# Altium integrated library CD4016BE.IntLib: 1 symbol
Pins are listed as number, name and electrical type; pins without a type are passive.

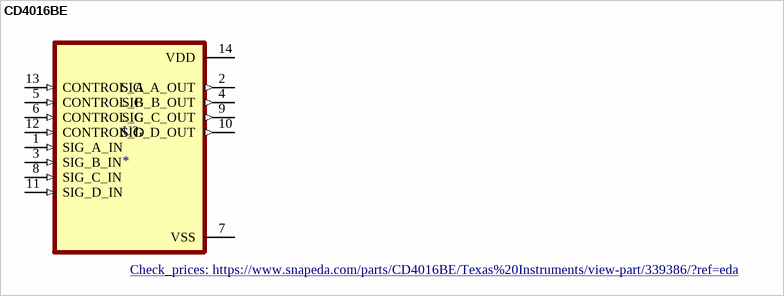
[diagram p0: symbol CD4016BE]

## CD4016BE
designator U?
100-pA, 20-V, 1:1 (SPST), 4-channel analog switch 14-PDIP -55 to 125; MP: CD4016BE; MF: Texas Instruments; Price: None; Availability: Good; Mouser-Purchase-URL: https://snapeda.com/shop?store=Mouser&id=339386; DigiKey-Purchase-URL: https://snapeda.com/shop?store=DigiKey&id=339386; Package: PDIP-14 Texas Instruments; SnapEDA_Link: https://www.snapeda.com/parts/CD4016BE/Texas%20Instruments/view-part/339386/?ref=snap; Value: *; Texas_Instruments-Purchase-URL: https://snapeda.com/shop?store=Texas+Instruments&id=339386; Check_prices: https://www.snapeda.com/parts/CD4016BE/Texas%20Instruments/view-part/339386/?ref=eda
footprint DIP794W45P254L1969H508Q14
pins: 1 SIG_A_IN (in), 2 SIG_A_OUT (out), 3 SIG_B_IN (in), 4 SIG_B_OUT (out), 5 CONTROL_B (in), 6 CONTROL_C (in), 7 VSS (power), 8 SIG_C_IN (in), 9 SIG_C_OUT (out), 10 SIG_D_OUT (out), 11 SIG_D_IN (in), 12 CONTROL_D (in), 13 CONTROL_A (in), 14 VDD (power)